# Altium schematic symbol library FT230XQ-R.SchLib: 1 symbol
Pins are listed as number, name and electrical type; pins without a type are passive.

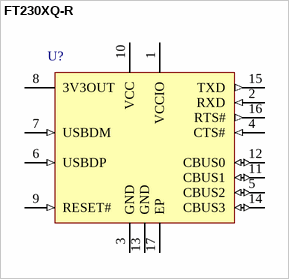
[diagram p0: symbol FT230XQ-R]

## FT230XQ-R
designator U?
USB to Basic UART Interface Chip, 16-Pin QFN, UHCI/OHCI/EHCI Compatible, USB 2.0 Compatible, -40°C to +85°C, Pb-Free, Tape and Reel; DatasheetVersion: ver 1.0, Feb-2012; PackageVersion: Feb-2012; PackageReference: QFN-16; PackageDescription: 16-Pin Quad Flat No-Lead, 4x4 mm Body, 0.65 mm Pitch; Code_JEDEC: MO-220WGGC; ComponentLink1Description: Manufacturer URL; ComponentLink1URL: http://www.ftdichip.com/; ComponentLink2Description: Datasheet; ComponentLink2URL: http://www.ftdichip.com/Support/Documents/DataSheets/ICs/DS_FT230X.pdf; ComponentLink3Description: FT230X Product Page; ComponentLink3URL: www.ftdichip.com/Products/ICs/FT230X.html
footprint QFN-16_N (QFN, 16-Leads, Body 4x4mm, Pitch 0.65mm, Thermal Pad 2.1x2.1mm, IPC Medium Density)
footprint QFN-16_L (QFN, 16-Leads, Body 4x4mm, Pitch 0.65mm, Thermal Pad 2.1x2.1mm, IPC High Density)
footprint QFN-16_M (QFN, 16-Leads, Body 4x4mm, Pitch 0.65mm, Thermal Pad 2.1x2.1mm, IPC Low Density)
pins: 1 VCCIO (power) "1V8 -3V3 supply for the IO cells.", 2 RXD (in) "Receiving Asynchronous Data Input.", 3 GND (power) "0V Ground input.", 4 CTS# (in) "Clear To Send Control Input / Handshake Signal.", 5 CBUS2 (io) "Configurable CBUS I/O Pin. Function of this pin is configured in the device MTP memory. The default configuration is TXLED#.", 6 USBDP (in) "USB Data Signal Plus.", 7 USBDM (in) "USB Data Signal Minus.", 8 3V3OUT (power) "3V3 output at 50mA. May be used to power VCCIO. When VCC is 3V3; pin 8 is an input pin and should be connected to pin 10.", 9 RESET# (in) "Reset input (active low).", 10 VCC (power) "5 V (or 3V3) supply to IC.", 11 CBUS1 (io) "Configurable CBUS I/O Pin. Function of this pin is configured in the device MTP memory. The default configuration is RXLED#.", 12 CBUS0 (io) "Configurable CBUS I/O Pin. Function of this pin is configured in the device MTP memory. The default configuration is TXDEN.", 13 GND (power) "0V Ground input.", 14 CBUS3 (io) "Configurable CBUS I/O Pin. Function of this pin is configured in the device MTP memory. The default configuration is SLEEP#.", 15 TXD (out) "Transmit Asynchronous Data Output.", 16 RTS# (out) "Request to Send Control Output / Handshake Signal.", 17 EP (power) "Exposed Pad. Connect to GND."